# EAGLE library part LTV-826S (library custom)
Optoisolator Transistor Output 5000Vrms 2 Channel 8-SMD
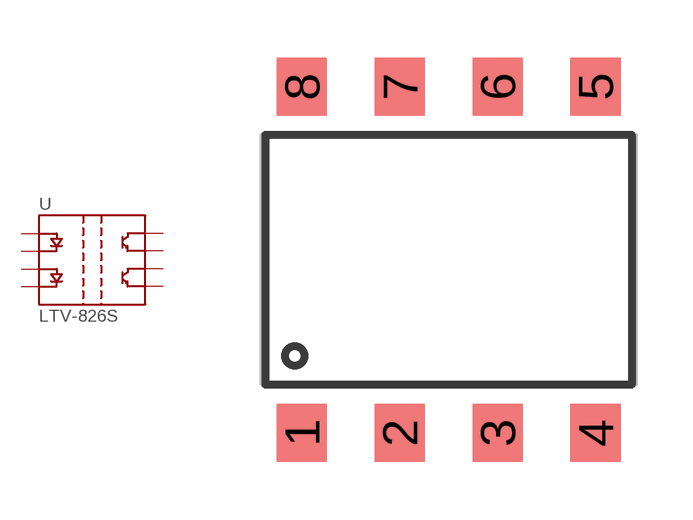
[diagram p127: symbol with the pads of 8-SMD; footprint 8-SMD]

Designator prefix U

## LTV-826S  [8-SMD]
1  P$1
2  P$2
3  P$3
4  P$4
5  P$5
6  P$6
7  P$7
8  P$8

## Footprint 8-SMD (pad centres in mm)
smd 1.3 x 1.5: 1 -3.81,-4.5; 2 -1.27,-4.5; 3 1.27,-4.5; 4 3.81,-4.5; 5 3.81,4.5; 6 1.27,4.5; 7 -1.27,4.5; 8 -3.81,4.5